# Altium schematic symbol library ADG732BSUZ-REEL.SchLib: 1 symbol
Pins are listed as number, name and electrical type; pins without a type are passive.

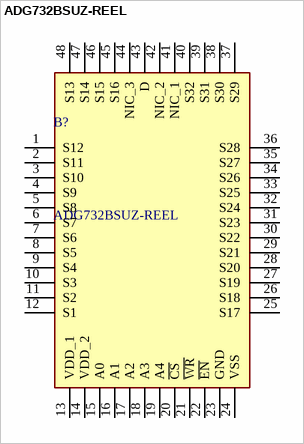
[diagram p0: symbol ADG732BSUZ-REEL]

## ADG732BSUZ-REEL
designator B?
16-/32-Channel, 4 , +1.8 V to +5.5 V and +/-2.5 V Analog Multiplexers.; Manufacturer_Name: Analog Devices; Geometry.Height: 1.2mm; Manufacturer_Part_Number: ADG732BSUZ-REEL; Mouser Part Number: 584-ADG732BSUZ-R; Mouser Price/Stock: https://www.mouser.co.uk/ProductDetail/Analog-Devices/ADG732BSUZ-REEL?qs=BpaRKvA4VqGYLEdHjoL3%2FQ%3D%3D; Arrow Part Number: ADG732BSUZ-REEL; Arrow Price/Stock: https://www.arrow.com/en/products/adg732bsuz-reel/analog-devices?region=nac; Datasheet Link: https://componentsearchengine.com/Datasheets/1/ADG732BSUZ-REEL.pdf
footprint QFP50P900X900X120-48N
pins: 1 S12, 2 S11, 3 S10, 4 S9, 5 S8, 6 S7, 7 S6, 8 S5, 9 S4, 10 S3, 11 S2, 12 S1, 13 VDD_1, 14 VDD_2, 15 A0, 16 A1, 17 A2, 18 A3, 19 A4, 20 ~{CS}, 21 ~{WR}, 22 ~{EN}, 23 GND, 24 VSS, 25 S17, 26 S18, 27 S19, 28 S20, 29 S21, 30 S22, 31 S23, 32 S24, 33 S25, 34 S26, 35 S27, 36 S28, 37 S29, 38 S30, 39 S31, 40 S32, 41 NIC_1, 42 NIC_2, 43 D, 44 NIC_3, 45 S16, 46 S15, 47 S14, 48 S13